# EAGLE library part CONN_RJ45_X8_SH (library GPLIB_CONN)
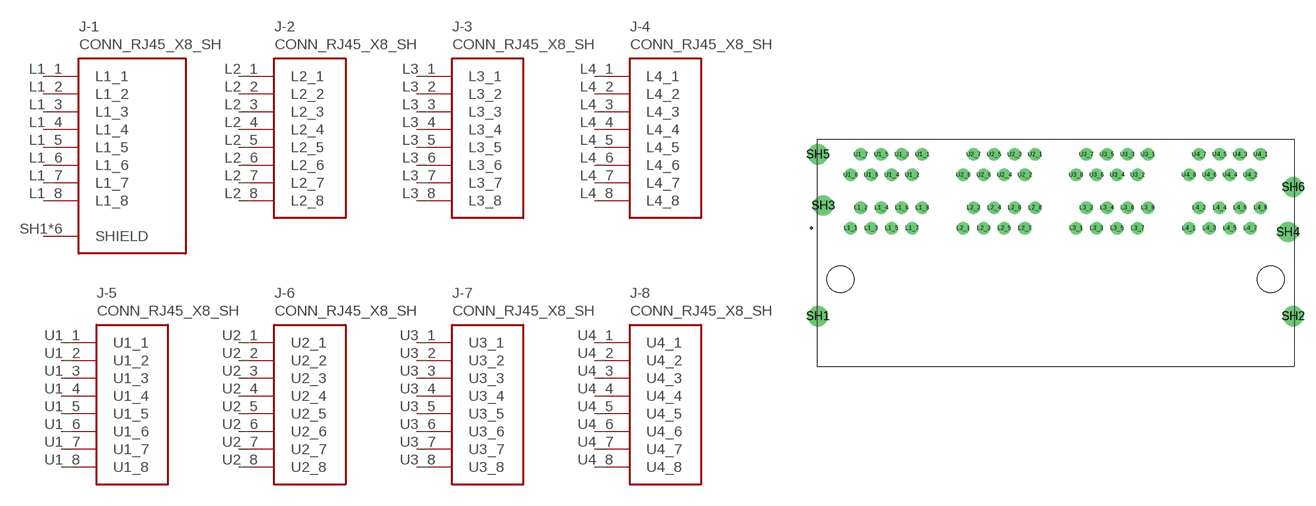
[diagram p40: symbol with the pads of CONN_RJ45_X8_HC-RJ45-059A-2*4-3; footprint CONN_RJ45_X8_HC-RJ45-059A-2*4-3]

Designator prefix J; gates -1=CONN_ETH_8PORT_LOWER_PORT1 -2=CONN_ETH_8PORT_LOWER_PORT2 -3=CONN_ETH_8PORT_LOWER_PORT3 -4=CONN_ETH_8PORT_LOWER_PORT4 -5=CONN_ETH_8PORT_UPPER_PORT1 -6=CONN_ETH_8PORT_UPPER_PORT2 -7=CONN_ETH_8PORT_UPPER_PORT3 -8=CONN_ETH_8PORT_UPPER_PORT4

## CONN_RJ45_X8_SH_HC-RJ45-059A-2*4-3  [CONN_RJ45_X8_HC-RJ45-059A-2*4-3]
L1_1  -1:L1_1  pas
L1_2  -1:L1_2  pas
L1_3  -1:L1_3  pas
L1_4  -1:L1_4  pas
L1_5  -1:L1_5  pas
L1_6  -1:L1_6  pas
L1_7  -1:L1_7  pas
L1_8  -1:L1_8  pas
L2_1  -2:L2_1  pas
L2_2  -2:L2_2  pas
L2_3  -2:L2_3  pas
L2_4  -2:L2_4  pas
L2_5  -2:L2_5  pas
L2_6  -2:L2_6  pas
L2_7  -2:L2_7  pas
L2_8  -2:L2_8  pas
L3_1  -3:L3_1  pas
L3_2  -3:L3_2  pas
L3_3  -3:L3_3  pas
L3_4  -3:L3_4  pas
L3_5  -3:L3_5  pas
L3_6  -3:L3_6  pas
L3_7  -3:L3_7  pas
L3_8  -3:L3_8  pas
L4_1  -4:L4_1  pas
L4_2  -4:L4_2  pas
L4_3  -4:L4_3  pas
L4_4  -4:L4_4  pas
L4_5  -4:L4_5  pas
L4_6  -4:L4_6  pas
L4_7  -4:L4_7  pas
L4_8  -4:L4_8  pas
SH1  -1:SHIELD  pas
SH2  -1:SHIELD  pas
SH3  -1:SHIELD  pas
SH4  -1:SHIELD  pas
SH5  -1:SHIELD  pas
SH6  -1:SHIELD  pas
U1_1  -5:U1_1  pas
U1_2  -5:U1_2  pas
U1_3  -5:U1_3  pas
U1_4  -5:U1_4  pas
U1_5  -5:U1_5  pas
U1_6  -5:U1_6  pas
U1_7  -5:U1_7  pas
U1_8  -5:U1_8  pas
U2_1  -6:U2_1  pas
U2_2  -6:U2_2  pas
U2_3  -6:U2_3  pas
U2_4  -6:U2_4  pas
U2_5  -6:U2_5  pas
U2_6  -6:U2_6  pas
U2_7  -6:U2_7  pas
U2_8  -6:U2_8  pas
U3_1  -7:U3_1  pas
U3_2  -7:U3_2  pas
U3_3  -7:U3_3  pas
U3_4  -7:U3_4  pas
U3_5  -7:U3_5  pas
U3_6  -7:U3_6  pas
U3_7  -7:U3_7  pas
U3_8  -7:U3_8  pas
U4_1  -8:U4_1  pas
U4_2  -8:U4_2  pas
U4_3  -8:U4_3  pas
U4_4  -8:U4_4  pas
U4_5  -8:U4_5  pas
U4_6  -8:U4_6  pas
U4_7  -8:U4_7  pas
U4_8  -8:U4_8  pas

## Footprint CONN_RJ45_X8_HC-RJ45-059A-2*4-3 (pad centres in mm)
drill 0.92 pad 1.55: L1_1 -25.4,0.89; L1_2 -24.13,3.43; L1_3 -22.86,0.89; L1_4 -21.59,3.43; L1_5 -20.32,0.89; L1_6 -19.05,3.43; L1_7 -17.78,0.89; L1_8 -16.51,3.43; L2_1 -11.43,0.89; L2_2 -10.16,3.43; L2_3 -8.89,0.89; L2_4 -7.62,3.43; L2_5 -6.35,0.89; L2_6 -5.08,3.43; L2_7 -3.81,0.89; L2_8 -2.54,3.43; L3_1 2.54,0.89; L3_2 3.81,3.43; L3_3 5.08,0.89; L3_4 6.35,3.43; L3_5 7.62,0.89; L3_6 8.89,3.43; L3_7 10.16,0.89; L3_8 11.43,3.43; L4_1 16.51,0.89; L4_2 17.78,3.43; L4_3 19.05,0.89; L4_4 20.32,3.43; L4_5 21.59,0.89; L4_6 22.86,3.43; L4_7 24.13,0.89; L4_8 25.4,3.43; U1_1 -16.51,10.03; U1_2 -17.78,7.49; U1_3 -19.05,10.03; U1_4 -20.32,7.49; U1_5 -21.59,10.03; U1_6 -22.86,7.49; U1_7 -24.13,10.03; U1_8 -25.4,7.49; U2_1 -2.54,10.03; U2_2 -3.81,7.49; U2_3 -5.08,10.03; U2_4 -6.35,7.49; U2_5 -7.62,10.03; U2_6 -8.89,7.49; U2_7 -10.16,10.03; U2_8 -11.43,7.49; U3_1 11.43,10.03; U3_2 10.16,7.49; U3_3 8.89,10.03; U3_4 7.62,7.49; U3_5 6.35,10.03; U3_6 5.08,7.49; U3_7 3.81,10.03; U3_8 2.54,7.49; U4_1 25.4,10.03; U4_2 24.13,7.49; U4_3 22.86,10.03; U4_4 21.59,7.49; U4_5 20.32,10.03; U4_6 19.05,7.49; U4_7 17.78,10.03; U4_8 16.51,7.49
drill 1.6 pad 2.5: SH1 -29.46,-10.03; SH2 29.46,-10.03; SH3 -28.795,3.69; SH4 28.795,0.39; SH5 -29.46,10.03; SH6 29.46,5.97
hole 3.3 at -26.67,-5.46
hole 3.3 at 26.67,-5.46